# EAGLE library part LTC5800 (library powerfilm)
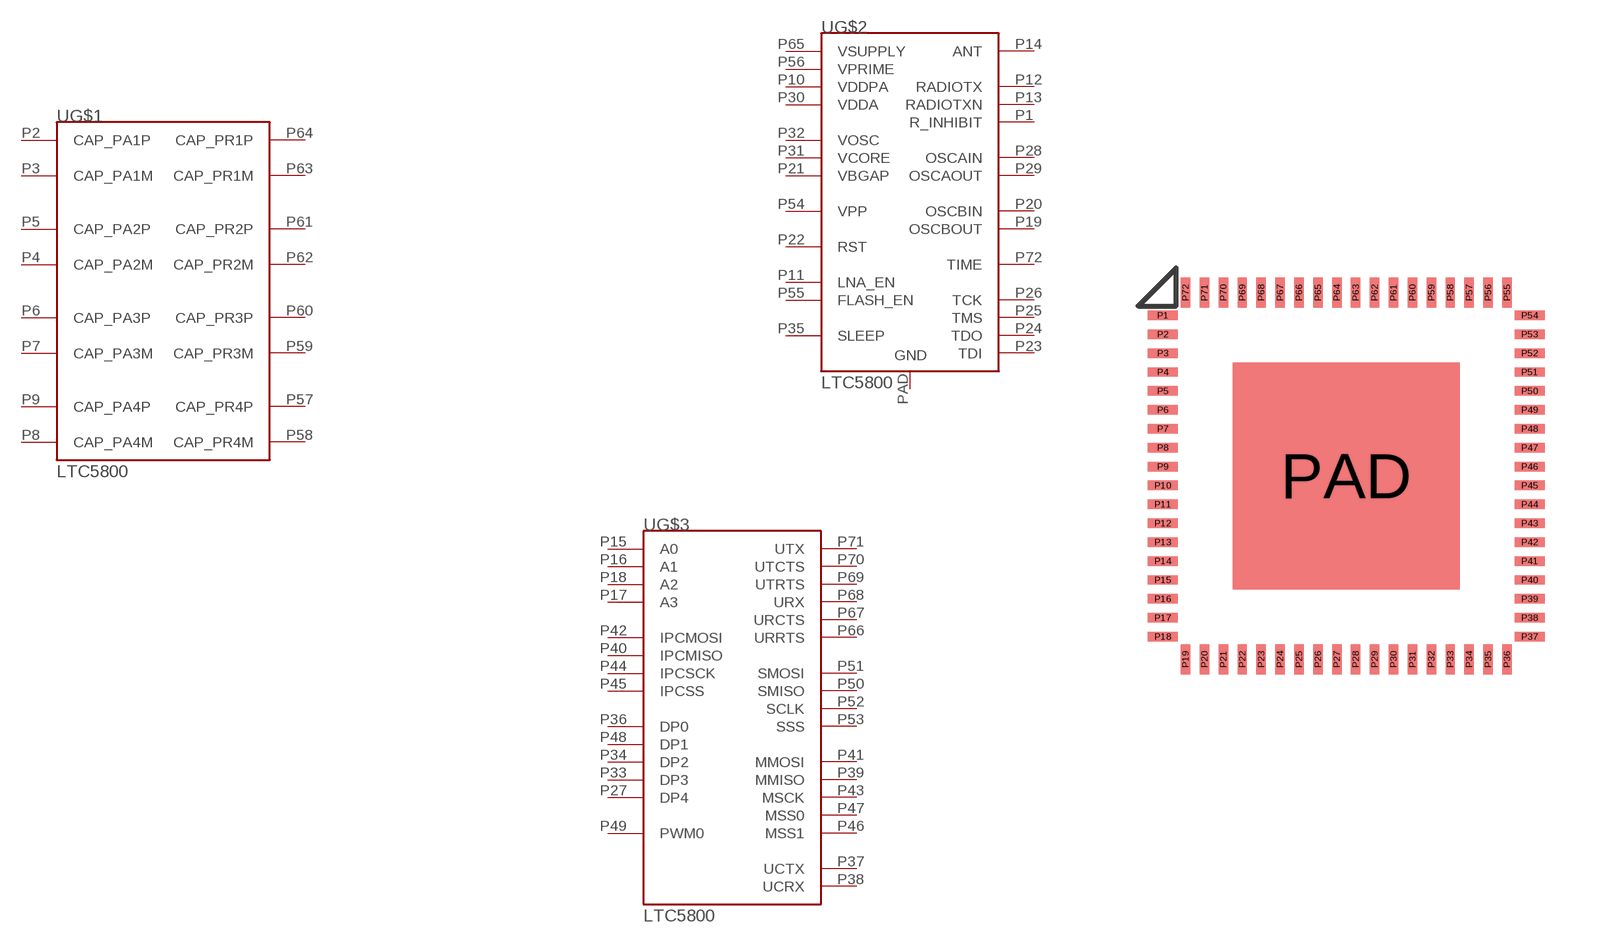
[diagram p4: symbol with the pads of QFN-72; footprint QFN-72]

Designator prefix U; gates G$1=LTC5800_CAP G$2=LTC5800_CORE G$3=LTC5800_IO

## LTC5800 (DIGIKEY: LTC5800IWR-IPMA#PBF-ND)  [QFN-72]
P1  G$2:R_INHIBIT
P2  G$1:CAP_PA1P
P3  G$1:CAP_PA1M
P4  G$1:CAP_PA2M
P5  G$1:CAP_PA2P
P6  G$1:CAP_PA3P
P7  G$1:CAP_PA3M
P8  G$1:CAP_PA4M
P9  G$1:CAP_PA4P
P10  G$2:VDDPA
P11  G$2:LNA_EN
P12  G$2:RADIOTX
P13  G$2:RADIOTXN
P14  G$2:ANT
P15  G$3:A0
P16  G$3:A1
P17  G$3:A3
P18  G$3:A2
P19  G$2:OSCBOUT
P20  G$2:OSCBIN
P21  G$2:VBGAP
P22  G$2:RST
P23  G$2:TDI
P24  G$2:TDO
P25  G$2:TMS
P26  G$2:TCK
P27  G$3:DP4
P28  G$2:OSCAIN
P29  G$2:OSCAOUT
P30  G$2:VDDA
P31  G$2:VCORE
P32  G$2:VOSC
P33  G$3:DP3
P34  G$3:DP2
P35  G$2:SLEEP
P36  G$3:DP0
P37  G$3:UCTX
P38  G$3:UCRX
P39  G$3:MMISO
P40  G$3:IPCMISO
P41  G$3:MMOSI
P42  G$3:IPCMOSI
P43  G$3:MSCK
P44  G$3:IPCSCK
P45  G$3:IPCSS
P46  G$3:MSS1
P47  G$3:MSS0
P48  G$3:DP1
P49  G$3:PWM0
P50  G$3:SMISO
P51  G$3:SMOSI
P52  G$3:SCLK
P53  G$3:SSS
P54  G$2:VPP
P55  G$2:FLASH_EN
P56  G$2:VPRIME
P57  G$1:CAP_PR4P
P58  G$1:CAP_PR4M
P59  G$1:CAP_PR3M
P60  G$1:CAP_PR3P
P61  G$1:CAP_PR2P
P62  G$1:CAP_PR2M
P63  G$1:CAP_PR1M
P64  G$1:CAP_PR1P
P65  G$2:VSUPPLY
P66  G$3:URRTS
P67  G$3:URCTS
P68  G$3:URX
P69  G$3:UTRTS
P70  G$3:UTCTS
P71  G$3:UTX
P72  G$2:TIME
PAD  G$2:GND

## Footprint QFN-72 (pad centres in mm)
smd 0.8 x 0.25: P1 -4.85,4.25; P2 -4.85,3.75; P3 -4.85,3.25; P4 -4.85,2.75; P5 -4.85,2.25; P6 -4.85,1.75; P7 -4.85,1.25; P8 -4.85,0.75; P9 -4.85,0.25; P10 -4.85,-0.25; P11 -4.85,-0.75; P12 -4.85,-1.25; P13 -4.85,-1.75; P14 -4.85,-2.25; P15 -4.85,-2.75; P16 -4.85,-3.25; P17 -4.85,-3.75; P18 -4.85,-4.25; P37 4.85,-4.25; P38 4.85,-3.75; P39 4.85,-3.25; P40 4.85,-2.75; P41 4.85,-2.25; P42 4.85,-1.75; P43 4.85,-1.25; P44 4.85,-0.75; P45 4.85,-0.25; P46 4.85,0.25; P47 4.85,0.75; P48 4.85,1.25; P49 4.85,1.75; P50 4.85,2.25; P51 4.85,2.75; P52 4.85,3.25; P53 4.85,3.75; P54 4.85,4.25
smd 0.25 x 0.8: P19 -4.25,-4.85; P20 -3.75,-4.85; P21 -3.25,-4.85; P22 -2.75,-4.85; P23 -2.25,-4.85; P24 -1.75,-4.85; P25 -1.25,-4.85; P26 -0.75,-4.85; P27 -0.25,-4.85; P28 0.25,-4.85; P29 0.75,-4.85; P30 1.25,-4.85; P31 1.75,-4.85; P32 2.25,-4.85; P33 2.75,-4.85; P34 3.25,-4.85; P35 3.75,-4.85; P36 4.25,-4.85; P55 4.25,4.85; P56 3.75,4.85; P57 3.25,4.85; P58 2.75,4.85; P59 2.25,4.85; P60 1.75,4.85; P61 1.25,4.85; P62 0.75,4.85; P63 0.25,4.85; P64 -0.25,4.85; P65 -0.75,4.85; P66 -1.25,4.85; P67 -1.75,4.85; P68 -2.25,4.85; P69 -2.75,4.85; P70 -3.25,4.85; P71 -3.75,4.85; P72 -4.25,4.85
smd 6 x 6: PAD 0,0